# EAGLE library part M24M01 (library xmaker)
ST Microelectronics 1 Mbit serial I2C bus EEPROM
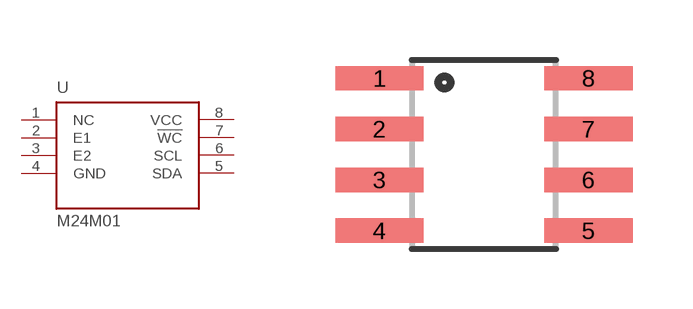
[diagram p5: symbol with the pads of SO08; footprint SO08]

Designator prefix U

## M24M01MN  [SO08]
1  NC
2  E1
3  E2
4  GND
5  SDA
6  SCL
7  !WC
8  VCC

## Footprint SO08 (pad centres in mm)
Small Outline Package Fits JEDEC packages (narrow SOIC-8) (Copy from SFE Footprint Library.)
smd 2.21 x 0.61: 1 -2.616,1.905; 2 -2.616,0.635; 3 -2.616,-0.635; 4 -2.616,-1.905; 5 2.616,-1.905; 6 2.616,-0.635; 7 2.616,0.635; 8 2.616,1.905